# EAGLE library part USB_A_SMD_U (library Powerbank)
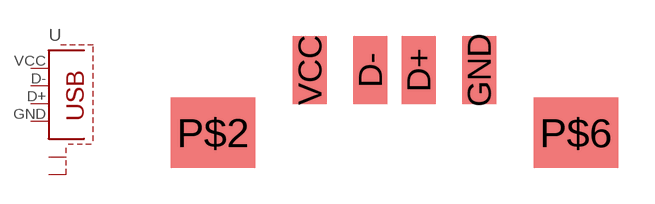
[diagram p0: symbol with the pads of USB_A_SMD_U; footprint USB_A_SMD_U]

Designator prefix -

## USB_A_SMD_U  [USB_A_SMD_U]
D+  3  pas
D-  2  pas
GND  4  pas
P$2  S1  pas
P$6  S2  pas
VCC  1  pas

## Footprint USB_A_SMD_U (pad centres in mm)
smd 1.4 x 2.8: D+ 1,2.6; D- -1,2.6; GND 3.5,2.6; VCC -3.5,2.6
smd 3.5 x 2.9: P$2 -7.5,0; P$6 7.5,0